# EAGLE library part ZSSC3123 (library LINEAR)
ZMDI ZSSC3123 Capacitive Sensor Signal Conditioner
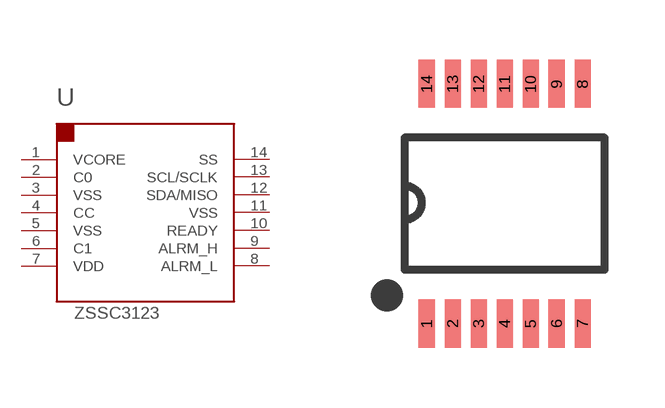
[diagram p0: symbol with the pads of TSSOP14; footprint TSSOP14]

Designator prefix U

## ZSSC3123 (PARTNO: 01-100450-00)  [TSSOP14]
1  VCORE  pas
2  C0  pas
3  VSS  pwr
4  CC  pas
5  VSS  pwr
6  C1  pas
7  VDD  pwr
8  ALRM_L  out
9  ALRM_H  out
10  READY  out
11  VSS  pwr
12  SDA/MISO
13  SCL/SCLK  in
14  SS  in

## Footprint TSSOP14 (pad centres in mm)
TSSOP14
smd 0.4 x 1.2: 1 0,0.3; 2 0.65,0.3; 3 1.3,0.3; 4 1.95,0.3; 5 2.6,0.3; 6 3.25,0.3; 7 3.9,0.3; 8 3.9,6.3; 9 3.25,6.3; 10 2.6,6.3; 11 1.95,6.3; 12 1.3,6.3; 13 0.65,6.3; 14 0,6.3